# EAGLE library part MAGBASE (library Modulo)
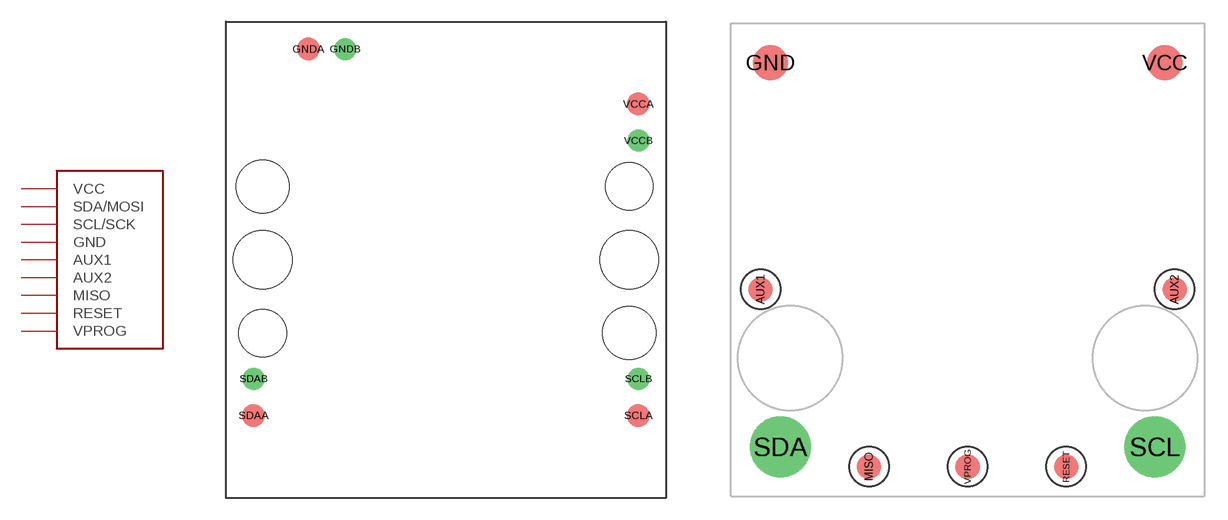
[diagram p8: symbol with the pads of MAGBASE; footprints MAGBASE, MAGBASE-V2]

Designator prefix -

## MAGBASE (PARTNUM: EXCLUDE)  [MAGBASE]
GNDA  GND
GNDB  GND
SCLA  SCL/SCK
SCLB  SCL/SCK
SDAA  SDA/MOSI
SDAB  SDA/MOSI
VCCA  VCC
VCCB  VCC

## MAGBASE-V2  [MAGBASE-V2]
AUX1  AUX1
AUX2  AUX2
GND  GND
MISO  MISO
RESET  RESET
SCL  SCL/SCK
SDA  SDA/MOSI
VCC  VCC
VPROG  VPROG

## Footprint MAGBASE (pad centres in mm)
smd 1.587 x 1.587: GNDA 5.715,31.115; SCLA 28.575,5.715; SDAA 1.905,5.715; VCCA 28.575,27.305
drill 1.016: GNDB 8.255,31.115; SCLB 28.575,8.255; SDAB 1.905,8.255; VCCB 28.575,24.765
hole 4.064 at 27.94,16.51
hole 4.064 at 2.54,16.51
hole 3.683 at 2.54,21.59
hole 3.302 at 2.54,11.43
hole 3.683 at 27.94,11.43
hole 3.302 at 27.94,21.59

## Footprint MAGBASE-V2 (pad centres in mm)
smd 1.587 x 1.587: AUX1 1.905,13.335; AUX2 28.575,13.335; MISO 8.89,1.905; RESET 21.59,1.905; VPROG 15.24,1.905
smd 2.286 x 2.286: GND 2.54,27.94; VCC 27.94,27.94
drill 2.921: SCL 27.305,3.175; SDA 3.175,3.175